# Altium schematic symbol library Crystal.SchLib: 4 symbols
Pins are listed as number, name and electrical type; pins without a type are passive.

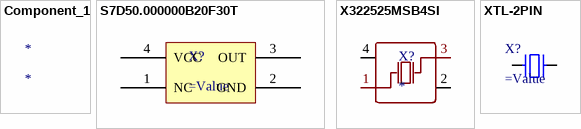
[diagram p0: symbols Component_1 to XTL-2PIN]

## Component_1
designator *

## S7D50.000000B20F30T
designator X?
=Description
pins: 1 NC, 2 GND, 3 OUT, 4 VCC

## X322525MSB4SI
designator X?
pins: 1 OSC1, 2 GND, 3 OSC2, 4 GND

## XTL-2PIN
designator X?
=Description
pins: 1, 2